# Altium footprint library MergenElektronik_Connectors_USB.PcbLib: 1 footprints
Each footprint in its own frame and in the unit in brackets; x right, y up, seen from the top. Pads: shape width x height; smd on the part's side, far side on the other; paste and mask are expansions set on the pad; w line width, h text height; cw(c..) or ccw(c..) is an arc to the next point about the centre after c.
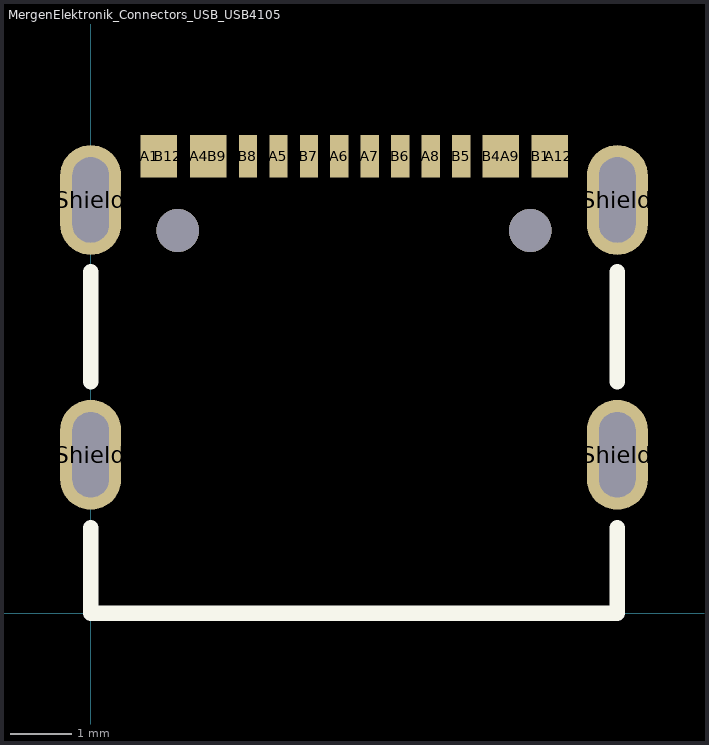
[diagram p0: the footprint, top view; thin cyan lines are the x and y axes]

## MergenElektronik_Connectors_USB_USB4105 [mm] "USB4105"
pads (20):
  rect 0.3x0.7 smd: A1(0.97,7.5) A4(1.78,7.5) A5(3.08,7.5) A6(4.08,7.5) A7(4.58,7.5) A8(5.58,7.5) A9(6.88,7.5) A12(7.68,7.5) B1(7.38,7.5) B4(6.58,7.5) B5(6.08,7.5) B6(5.08,7.5) B7(3.58,7.5) B8(2.58,7.5) B9(2.08,7.5) B12(1.27,7.5)
  oval 1x1.8 hole 0.6 slot 1.4 at 90 deg: Shield(0,2.6) Shield(0,6.78) Shield(8.64,2.6) Shield(8.64,6.78)
via 7.21,6.28 diameter 0.7 hole 0.7
via 1.43,6.28 diameter 0.7 hole 0.7
Top Overlay:
  lines w0.254: 0,1.4 0,0 8.64,0 8.64,1.4 ; 0,3.8 0,5.6 ; 8.64,3.8 8.64,5.6
3D body: height 3.26, standoff -1.2, extent -0.145,-0.075 8.795,7.625